# Altium footprint library ATK-2014-09-12.PcbLib: 436 footprints (part 6 of 28)
Each footprint in its own frame and in the unit in brackets; x right, y up, seen from the top. Pads: shape width x height; smd on the part's side, far side on the other; paste and mask are expansions set on the pad; w line width, h text height; cw(c..) or ccw(c..) is an arc to the next point about the centre after c.
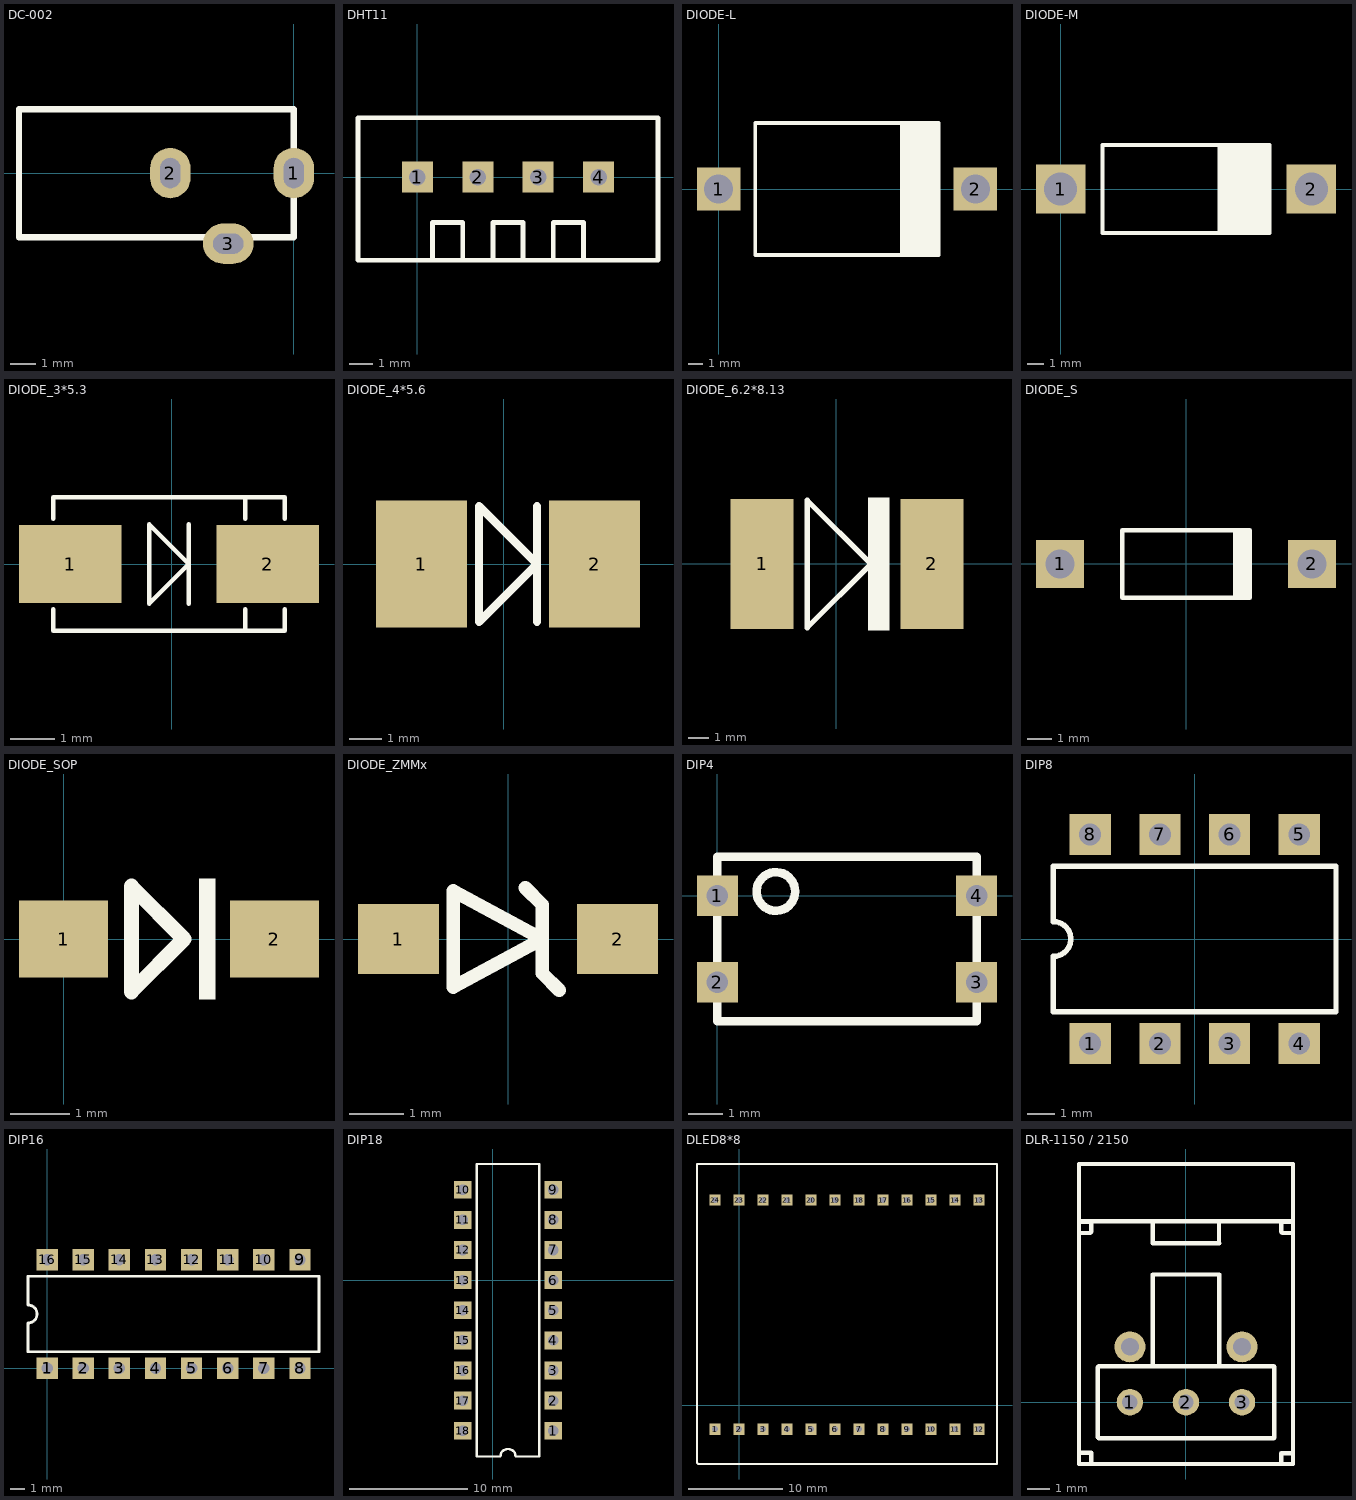
[diagram p5: the footprints below, top view; thin cyan lines are the x and y axes]

## DC-002 [mm] "3.5-1.3mm DC 电源座"
pads (3):
  oval 1.6x2 hole 0.8 slot 1.2 at 90 deg: 1(0,0) 2(-4.9,0)
  oval 2x1.6 hole 0.8 slot 1.2 at 0 deg: 3(-2.6,-2.8)
Top Overlay:
  lines w0.254: -10.9,-2.54 0,-2.54 0,2.54 -10.9,2.54 -10.9,-2.54

## DHT11 [mm] "2.54mm"
height 15
pads (4):
  rect 1.3x1.3 hole 0.7: 1(0,0) 2(2.54,0) 3(5.08,0) 4(7.62,0)
Top Overlay:
  lines w0.203: -2.5,-3.5 7.62,-3.5 10.12,-3.5 ; -2.5,-3.46 -2.5,0 -2.5,2.5 7.62,2.5 10.12,2.5 10.12,0 10.12,-3.46 ; 0.635,-3.5 0.635,-1.905 1.905,-1.905 1.905,-3.5 ; 3.175,-3.5 3.175,-1.905 4.445,-1.905 4.445,-3.5 ; 5.715,-3.5 5.715,-1.905 6.985,-1.905 6.985,-3.5

## DIODE-L [mm] "6A10"
height 10
pads (2):
  rect 3x3 hole 2: 1(0,0) 2(17.78,0)
Top Overlay:
  rectangle: 12.7,-4.572 15.24,4.572
  lines w0.254: 12.7,-4.572 12.7,4.572 ; 2.54,-4.572 2.54,4.572 15.24,4.572 15.24,-4.572 2.54,-4.572

## DIODE-M [mm] "1N5822"
height 6
pads (2):
  rect 3x3 hole 2: 1(0,0) 2(15.24,0)
Top Overlay:
  rectangle: 9.525,-2.667 12.7,2.667
  lines w0.254: 2.54,-2.667 4.699,-2.667 12.7,-2.667 12.7,2.032 12.7,2.667 11.811,2.667 2.54,2.667 2.54,-2.667

## DIODE_3*5.3 [mm] "ME:SS14/SS24;L:5.3mm;W:3mm;"
height 2.5
pads (2):
  rect 2.3x1.75 smd: 1(-2.286,0) 2(2.159,0)
Top Overlay:
  lines w0.1: -2.667,-1.016 -2.667,-1.5 2.54,-1.5 2.54,-1.016 ; -2.667,1.016 -2.667,1.5 2.54,1.5 2.54,1.016 ; 0.381,-0.889 0.381,0.889 ; 1.651,-1.5 1.651,-1.016 ; 1.651,1.016 1.651,1.5 ; -0.508,-0.889 -0.508,0.889 0.381,0 -0.508,-0.889

## DIODE_4*5.6 [mm] "ME:RS2J.L:5.6mm;W:4mm"
height 2.5
pads (2):
  rect 2.8x3.9 smd: 1(-2.54,0) 2(2.794,0)
Top Overlay:
  lines w0.254: 1.016,-1.778 1.016,1.778 ; -0.762,-1.778 -0.762,-1.524 -0.762,1.778 1.016,0 -0.762,-1.778

## DIODE_6.2*8.13 [mm] "ME:RS2J.L:8.13mm;W:6.2mm"
height 2.5
pads (2):
  rect 3x6.22 smd: 1(-3.556,0) 2(4.572,0)
Top Overlay:
  rectangle: 1.524,-3.175 2.54,3.175
  lines w0.254: -1.397,-3.048 -1.397,1.016 -1.397,3.048 1.651,0 -1.397,-3.048

## DIODE_S [mm] "1N4007"
height 2.8
pads (2):
  rect 2x2 hole 1.2: 1(-5.23,0) 2(5.23,0)
Top Overlay:
  rectangle: 1.95,-1.4 2.75,1.4
  lines w0.2: 2.65,-1.4 -2.65,-1.4 -2.65,1.4 2.65,1.4

## DIODE_SOP [mm] "4148"
height 2
pads (2):
  rect 1.5x1.3 smd: 1(0,0) 2(3.556,0)
Top Overlay:
  rectangle: 2.286,-1.016 2.559,1.016
  lines w0.254: 1.143,-0.889 2.032,0 1.143,0.889 1.143,-0.889

## DIODE_ZMMx [mm] "ZMM3V6"
height 2
pads (2):
  rect 1.5x1.3 smd: 1(-2.032,0) 2(2.032,0)
Top Overlay:
  lines w0.254: 0.318,0.953 0.635,0.635 0.635,-0.635 0.953,-0.953 ; -1.016,-0.889 0.635,0 -1.016,0.889 -1.016,-0.889

## DIP4 [mm] "DIP-4,Row Spacing 7.62 mm; Pitch 2.54 mm"
height 5
pads (4):
  rect 1.2x1.2 hole 0.635: 1(0,0) 2(0,-2.54) 3(7.62,-2.54) 4(7.62,0)
Top Overlay:
  circle w0.254: c1.718,0.127 r0.568
  lines w0.254: 0,-3.683 7.62,-3.683 7.62,1.143 0,1.143 0,-3.683

## DIP8 [mm] "DIP8 Row Spacing 7.62 mm; Pitch 2.54 mm"
height 5.33
pads (8):
  rect 1.5x1.5 hole 0.8: 1(-3.81,-3.81) 2(-1.27,-3.81) 3(1.27,-3.81) 4(3.81,-3.81) 5(3.81,3.81) 6(1.27,3.81) 7(-1.27,3.81) 8(-3.81,3.81)
Top Overlay:
  lines w0.2: -5.15,-2.65 -5.15,-0.635 ccw(c-5.15,0) -5.15,0.635 -5.15,2.65 5.15,2.65 5.15,-2.65 -5.15,-2.65

## DIP16 [mm] "DIP16,Row Spacing 7.62 mm; Pitch 2.54 mm"
pads (16):
  rect 1.5x1.5 hole 0.8: 1(0,0) 2(2.54,0) 3(5.08,0) 4(7.62,0) 5(10.16,0) 6(12.7,0) 7(15.24,0) 8(17.78,0) 9(17.78,7.62) 10(15.24,7.62) 11(12.7,7.62) 12(10.16,7.62) 13(7.62,7.62) 14(5.08,7.62) 15(2.54,7.62) 16(0,7.62)
Top Overlay:
  lines w0.2: 8.82,1.16 19.12,1.16 19.12,6.46 8.82,6.46 ; 8.96,1.16 -1.34,1.16 -1.34,3.175 ccw(c-1.34,3.81) -1.34,4.445 -1.34,6.46 8.96,6.46

## DIP18 [mm] "DIP-18,Row Spacing 7.62 mm; Pitch 2.54 mm"
height 7
pads (18):
  rect 1.5x1.5 hole 0.9: 1(5.08,-12.7) 2(5.08,-10.16) 3(5.08,-7.62) 4(5.08,-5.08) 5(5.08,-2.54) 6(5.08,0) 7(5.08,2.54) 8(5.08,5.08) 9(5.08,7.62) 10(-2.54,7.62) 11(-2.54,5.08) 12(-2.54,2.54) 13(-2.54,0) 14(-2.54,-2.54) 15(-2.54,-5.08) 16(-2.54,-7.62) 17(-2.54,-10.16) 18(-2.54,-12.7)
Top Overlay:
  lines w0.2: -1.38,-14.87 0.635,-14.87 cw(c1.27,-14.87) 1.905,-14.87 3.92,-14.87 3.92,9.79 -1.38,9.79 -1.38,-14.87

## DLED8*8 [mm]
height 6.7
pads (24):
  rect 1.2x1.2 hole 0.635: 1(-2.54,-2.54) 2(0,-2.54) 3(2.54,-2.54) 4(5.08,-2.54) 5(7.62,-2.54) 6(10.16,-2.54) 7(12.7,-2.54) 8(15.24,-2.54) 9(17.78,-2.54) 10(20.32,-2.54) 11(22.86,-2.54) 12(25.4,-2.54) 13(25.4,21.717) 14(22.86,21.717) 15(20.32,21.717) 16(17.78,21.717) 17(15.24,21.717) 18(12.7,21.717) 19(10.16,21.717) 20(7.62,21.717) 21(5.08,21.717) 22(2.54,21.717) 23(0,21.717) 24(-2.54,21.717)
Top Overlay:
  lines w0.254: -4.445,-6.096 -4.318,-6.223 -3.302,-6.223 14.859,-6.223 27.305,-6.223 27.305,25.527 -4.445,25.527 -4.445,-6.096

## DLR-1150 / 2150 [mm] "光纤接收座13.55x9.70x12.00"
height 12
pads (5):
  round 1.2 hole 0.7: 1(-2.54,0) 2(0,0) 3(2.54,0)
  round 1.4 hole 0.8: ""(-2.54,2.51) ""(2.54,2.51)
Top Overlay:
  lines w0.2: -4.85,8.2 4.85,8.2 ; -4.801,8.179 -4.318,8.179 -4.293,8.153 -4.293,7.722 -4.343,7.671 -4.75,7.671 ; -4.75,-2.286 -4.293,-2.286 -4.293,-2.718 ; -1.5,7.2 1.5,7.2 ; -1.499,1.626 -1.499,5.791 1.5,5.791 1.5,1.626 ; -1.499,7.2 -1.499,8.204 ; 1.499,7.2 1.499,8.204 ; 3.988,1.626 -3.962,1.626 -4,1.588 -4,-1.588 -3.962,-1.626 3.988,-1.626 4,-1.613 4,1.6 ; 4.318,-2.794 4.318,-2.311 4.851,-2.311 ; 4.75,7.671 4.369,7.671 4.318,7.722 4.318,8.153 4.343,8.179 4.826,8.179 ; -4.85,-2.8 4.85,-2.8 4.85,10.8 -4.85,10.8 -4.85,-2.8